# Altium footprint library vsm_lib.PcbLib: 68 footprints (part 3 of 5)
Each footprint in its own frame and in the unit in brackets; x right, y up, seen from the top. Pads: shape width x height; smd on the part's side, far side on the other; paste and mask are expansions set on the pad; w line width, h text height; cw(c..) or ccw(c..) is an arc to the next point about the centre after c.
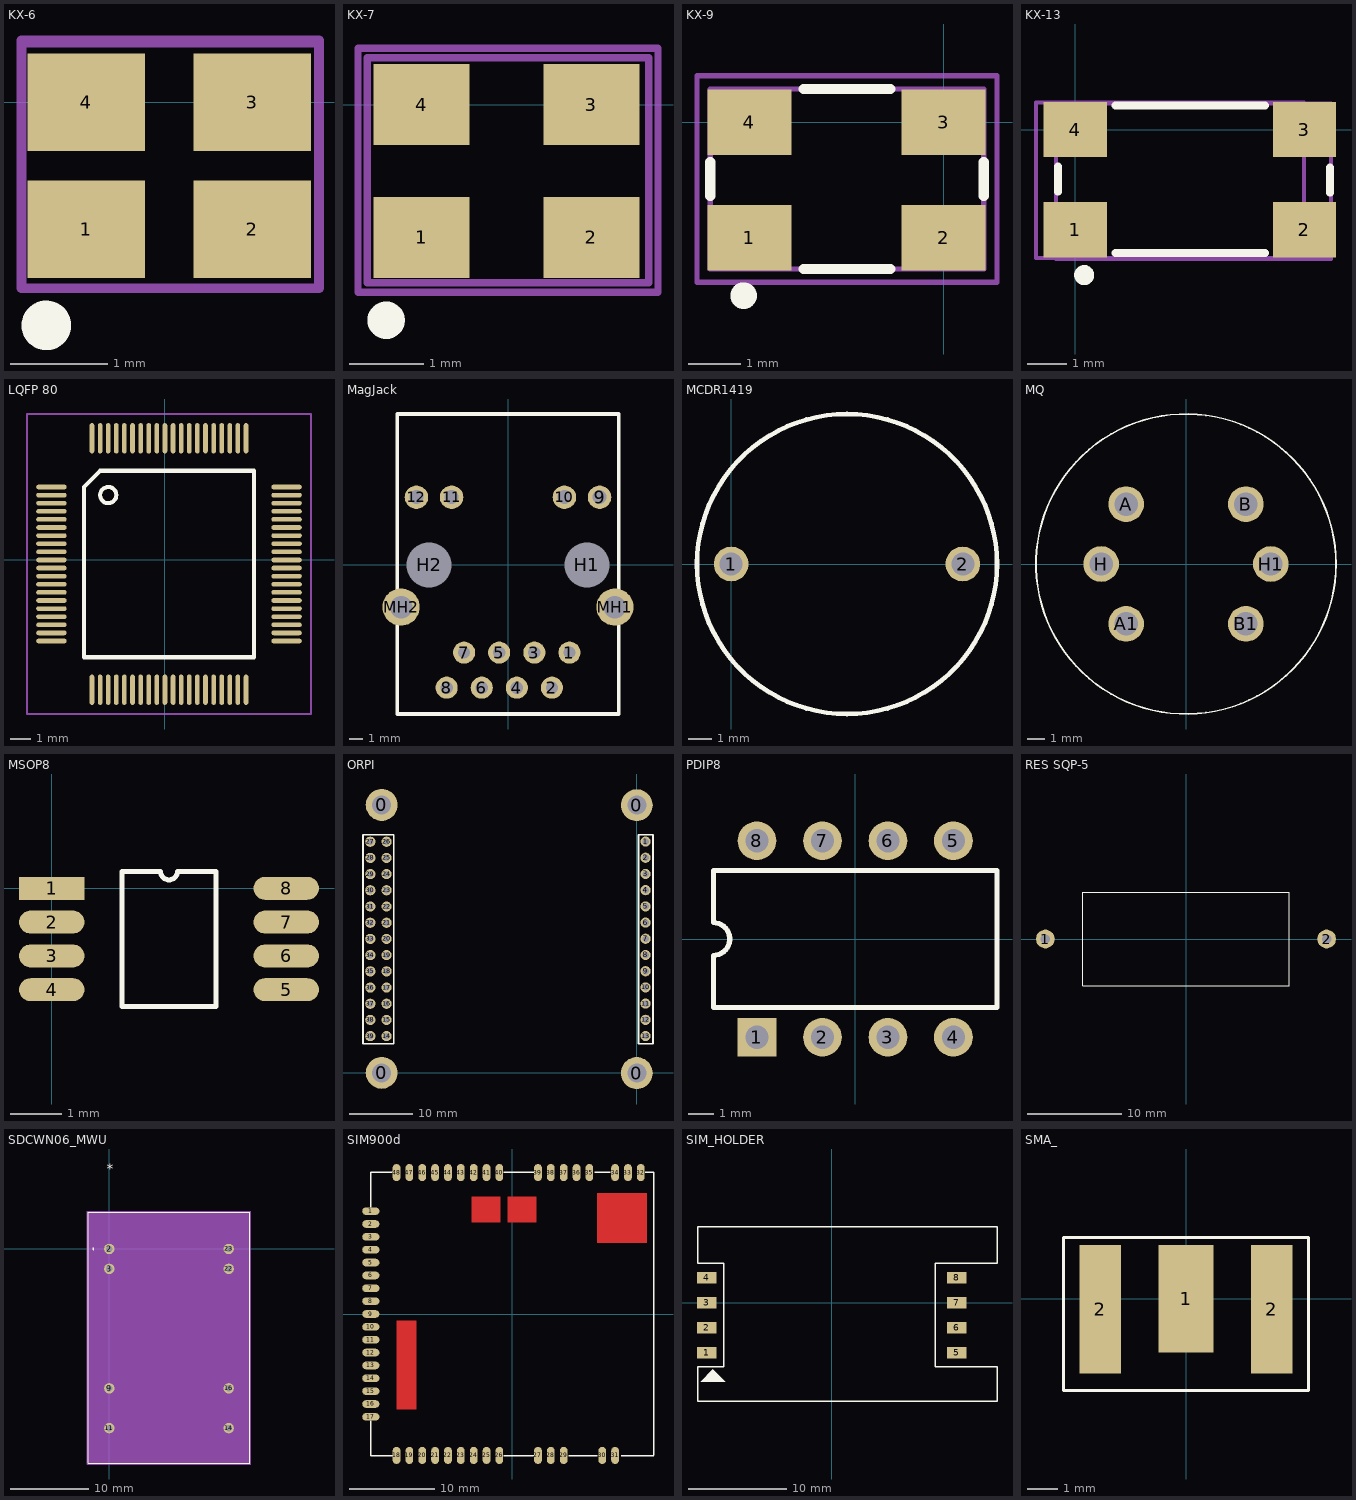
[diagram p2: the footprints below, top view; thin cyan lines are the x and y axes]

## KX-6 [mm]
height 1
pads (4):
  rect 1.2x1 smd: 1(-3.4,-1.3) 2(-1.7,-1.3) 3(-1.7,0) 4(-3.4,0)
Top Overlay:
  circle w0.254: c-3.81,-2.286 r0.127
Mechanical 13:
  lines w0.05: -4.089,-1.88 -1.016,-1.88 -1.016,0.584 -4.089,0.584 -4.089,-1.88
Mechanical 15:
  lines w0.1: -4.064,-1.905 -1.016,-1.905 -1.016,0.635 -4.064,0.635 -4.064,-1.905
3D body: height 0.55, standoff 0, extent -4.115,-1.905 -0.991,0.61

## KX-7 [mm]
height 0.55
pads (4):
  rect 1.3x1.1 smd: 1(-4.6,-1.8) 2(-2.3,-1.8) 3(-2.3,0) 4(-4.6,0)
Top Overlay:
  circle w0.254: c-5.08,-2.921 r0.127
Mechanical 13:
  lines w0.1: -5.334,-2.413 -5.334,0.635 -1.524,0.635 -1.524,-2.413 -5.334,-2.413
Mechanical 15:
  lines w0.1: -5.461,-2.54 -5.461,0.762 -1.397,0.762 -1.397,-2.54 -5.461,-2.54
3D body: height 0.55, standoff 0, extent -5.334,-2.413 -1.524,0.635

## KX-9 [mm]
height 1
pads (4):
  rect 1.6x1.25 smd: 1(-3.7,-2.2) 2(0,-2.2) 3(0,0) 4(-3.7,0)
Top Overlay:
  circle w0.254: c-3.81,-3.302 r0.127
  lines w0.2: -4.445,-1.397 -4.445,-0.762 ; -2.667,-2.794 -1.016,-2.794 ; -2.667,0.635 -1.016,0.635 ; 0.762,-1.397 0.762,-0.762
Mechanical 13:
  lines w0.1: -4.445,-2.794 0.762,-2.794 0.762,0.635 -4.445,0.635 -4.445,-2.794
Mechanical 15:
  lines w0.1: -4.699,-3.048 1.016,-3.048 1.016,0.889 -4.699,0.889 -4.699,-3.048
3D body: height 1, standoff 0, extent -4.445,-2.794 0.762,0.635

## KX-13 [mm]
pads (4):
  rect 1.6x1.4 smd: 1(0,-2.54) 2(5.8,-2.54) 3(5.8,0) 4(0,0)
Top Overlay:
  circle w0.254: c0.229,-3.683 r0.127
  lines w0.2: -0.432,-1.575 -0.432,-0.94 ; 1.016,-3.124 4.801,-3.124 ; 1.016,0.61 4.801,0.61 ; 6.452,-1.6 6.452,-0.965
Mechanical 13:
  lines w0.1: -0.483,-3.277 6.477,-3.277 6.477,0.66 -0.483,0.66 -0.483,-3.277
Mechanical 15:
  lines w0.1: -0.991,-3.251 5.791,-3.251 5.791,0.686 -0.991,0.686 -0.991,-3.251
3D body: height 1, standoff 0, extent -0.483,-3.226 6.528,0.686

## LQFP 80 [mm]
height 1
pads (80):
  oval 1.5x0.23 smd: 1(-5.6,3.6) 2(-5.6,3.2) 3(-5.6,2.8) 4(-5.6,2.4) 5(-5.6,2) 6(-5.6,1.6) 7(-5.6,1.2) 8(-5.6,0.8) 9(-5.6,0.4) 10(-5.6,0) 11(-5.6,-0.4) 12(-5.6,-0.8) 13(-5.6,-1.2) 14(-5.6,-1.6) 15(-5.6,-2) 16(-5.6,-2.4) 17(-5.6,-2.8) 18(-5.6,-3.2) 19(-5.6,-3.6) 20(-5.6,-4) 41(6,-4) 42(6,-3.6) 43(6,-3.2) 44(6,-2.8) 45(6,-2.4) 46(6,-2) 47(6,-1.6) 48(6,-1.2) 49(6,-0.8) 50(6,-0.4) 51(6,0) 52(6,0.4) 53(6,0.8) 54(6,1.2) 55(6,1.6) 56(6,2) 57(6,2.4) 58(6,2.8) 59(6,3.2) 60(6,3.6)
  oval 0.23x1.5 smd: 21(-3.6,-6.4) 22(-3.2,-6.4) 23(-2.8,-6.4) 24(-2.4,-6.4) 25(-2,-6.4) 26(-1.6,-6.4) 27(-1.2,-6.4) 28(-0.8,-6.4) 29(-0.4,-6.4) 30(0,-6.4) 31(0.4,-6.4) 32(0.8,-6.4) 33(1.2,-6.4) 34(1.6,-6.4) 35(2,-6.4) 36(2.4,-6.4) 37(2.8,-6.4) 38(3.2,-6.4) 39(3.6,-6.4) 40(4,-6.4) 61(4,6) 62(3.6,6) 63(3.2,6) 64(2.8,6) 65(2.4,6) 66(2,6) 67(1.6,6) 68(1.2,6) 69(0.8,6) 70(0.4,6) 71(0,6) 72(-0.4,6) 73(-0.8,6) 74(-1.2,6) 75(-1.6,6) 76(-2,6) 77(-2.4,6) 78(-2.8,6) 79(-3.2,6) 80(-3.6,6)
Top Overlay:
  circle w0.2: c-2.8,3.2 r0.4
  lines w0.2: -4,-4.8 4.4,-4.8 4.4,4.4 -3.2,4.4 -4,3.6 -4,-4.8
Mechanical 15:
  lines w0.1: -6.8,-7.6 7.2,-7.6 7.2,7.2 -6.8,7.2 -6.8,-7.6
3D body: height 1.45, standoff 0, extent -4,-4.8 4.4,4.4

## MagJack [mm]
height 13.5
pads (16):
  round 1.6 hole 0.89: 1(4.45,-6.35) 2(3.18,-8.89) 3(1.91,-6.35) 4(0.64,-8.89) 5(-0.64,-6.35) 6(-1.9,-8.89) 7(-3.18,-6.35) 8(-4.44,-8.89)
  round 1.7 hole 1.02: 9(6.625,4.9) 10(4.085,4.9) 11(-4.085,4.9) 12(-6.625,4.9)
  round 3 hole 3.25 unplated: H1(5.715,0) H2(-5.715,0)
  round 2.7 hole 1.63: MH1(7.745,-3.05) MH2(-7.745,-3.05)
Top Overlay:
  lines w0.254: 7.999,10.922 -8.001,10.922 -8.001,-10.795 8.001,-10.795 8.001,10.922
3D body: height 13.5, standoff 0, extent -8.001,-10.795 8.001,10.922

## MCDR1419 [mm]
pads (2):
  round 1.5 hole 1: 1(0,0) 2(10,0)
Top Overlay:
  circle w0.2: c5,0 r6.473

## MQ [mm]
height 23
pads (6):
  round 2 hole 1.3: A(-3.35,3.35) A1(-3.35,-3.35) B(3.35,3.35) B1(3.35,-3.35) H(-4.75,0) H1(4.75,0)
Top Overlay:
  circle w0.1: c0,0 r8.4

## MSOP8 [mm]
pads (8):
  rect 1.28x0.45 smd: 1(0,0)
  oval 1.28x0.45 smd: 2(0,-0.66) 3(0,-1.32) 4(0,-1.98) 5(4.58,-1.98) 6(4.58,-1.32) 7(4.58,-0.66) 8(4.58,0)
Top Overlay:
  lines w0.1: 1.375,-2.31 1.375,0.33 2.125,0.33 ccw(c2.29,0.33) 2.455,0.33 3.205,0.33 3.205,-2.31 1.375,-2.31
3D body: height 1.1, standoff 0, extent 1.321,-2.362 3.251,0.381

## ORPI [mm]
pads (43):
  round 5 hole 3: 0(-40,0) 0(-40,42) 0(0,-0.025) 0(0,41.975)
  round 1.6 hole 1: 1(1.37,36.26) 2(1.37,33.72) 3(1.37,31.18) 4(1.37,28.64) 5(1.37,26.1) 6(1.37,23.56) 7(1.37,21.02) 8(1.37,18.48) 9(1.37,15.94) 10(1.37,13.4) 11(1.37,10.86) 12(1.37,8.32) 13(1.37,5.78) 14(-39.23,5.76) 15(-39.23,8.3) 16(-39.23,10.84) 17(-39.23,13.38) 18(-39.23,15.92) 19(-39.23,18.46) 20(-39.23,21) 21(-39.23,23.54) 22(-39.23,26.08) 23(-39.23,28.62) 24(-39.23,31.16) 25(-39.23,33.7) 26(-39.23,36.24) 27(-41.77,36.24) 28(-41.77,33.7) 29(-41.77,31.16) 30(-41.77,28.62) 31(-41.77,26.08) 32(-41.77,23.54) 33(-41.77,21) 34(-41.77,18.46) 35(-41.77,15.92) 36(-41.77,13.38) 37(-41.77,10.84) 38(-41.77,8.3) 39(-41.77,5.76)
Top Overlay:
  lines w0.254: -42.926,4.572 -42.926,37.338 -38.1,37.338 -38.1,4.572 -42.926,4.572 ; 0.254,4.572 2.54,4.572 2.54,37.338 0.254,37.338 0.254,4.572
3D body "Orange Pi Zero v1_1 - ap214.STEP": height 18, standoff -0.15, extent -43.041,-3.705 3.003,48.122

## PDIP8 [mm] "DIP; 8 Leads; Row Spacing 7.62 mm; Pitch 2.54 mm"
height 5.33
pads (8):
  rect 1.5x1.5 hole 0.9: 1(-3.81,-3.81)
  round 1.5 hole 0.9: 2(-1.27,-3.81) 3(1.27,-3.81) 4(3.81,-3.81) 5(3.81,3.81) 6(1.27,3.81) 7(-1.27,3.81) 8(-3.81,3.81)
Top Overlay:
  lines w0.2: -5.5,-2.65 -5.5,-0.635 ccw(c-5.5,0) -5.5,0.635 -5.5,2.65 5.5,2.65 5.5,-2.65 -5.5,-2.65

## RES SQP-5 [mm]
pads (2):
  round 2 hole 1: 1(-15,0) 2(15,0)
Top Overlay:
  lines w0.1: -11,-5 11,-5 11,5 -11,5 -11,-5
3D body: height 8, standoff 0, extent -11.049,-4.953 11.049,5.08

## SDCWN06_MWU [mil]
pads (8):
  round 52 / inner round 60 / far side round 52 hole 32 paste-99999 mask+0: 2(0,0) 3(0,-100) 9(0,-700) 11(0,-900) 14(600,-900) 16(600,-700) 22(600,-100) 23(600,0)
Top Overlay:
  circle w6: c-80,0 r3
  lines w6: -105,-1075 -105,185 705,185 705,-1075 -105,-1075
  text "*" at -12.5,376.67 h50
Mechanical 13:
  circle w0: c26,0 r3
  lines w0: 288,180 ccw(c300,180) 312,180
  lines w1: -100,-1070 -100,180 700,180 700,-1070 -100,-1070
  text "*" at -12.5,16.67 h50
Mechanical 15:
  region: 700,-1070 -100,-1070 -100,180 700,180
  region: 710,-1080 -110,-1080 -110,190 710,190
  lines w6: -110,-1080 710,-1080 710,190 -110,190 -110,-1080
3D body "SDCWN06_MWU.step": height 400.12, standoff -300, extent -100,-1070 700,180

## SIM900d [mm]
height 3
pads (48):
  oval 2x0.9 smd: 1(-16.5,12) 2(-16.5,10.5) 3(-16.5,9) 4(-16.5,7.5) 5(-16.5,6) 6(-16.5,4.5) 7(-16.5,3) 8(-16.5,1.5) 9(-16.5,0) 10(-16.5,-1.5) 11(-16.5,-3) 12(-16.5,-4.5) 13(-16.5,-6) 14(-16.5,-7.5) 15(-16.5,-9) 16(-16.5,-10.5) 17(-16.5,-12)
  oval 0.9x2 smd: 18(-13.5,-16.5) 19(-12,-16.5) 20(-10.5,-16.5) 21(-9,-16.5) 22(-7.5,-16.5) 23(-6,-16.5) 24(-4.5,-16.5) 25(-3,-16.5) 26(-1.5,-16.5) 27(3,-16.5) 28(4.5,-16.5) 29(6,-16.5) 30(10.5,-16.5) 31(12,-16.5) 32(15,16.5) 33(13.5,16.5) 34(12,16.5) 35(9,16.5) 36(7.5,16.5) 37(6,16.5) 38(4.5,16.5) 39(3,16.5) 40(-1.5,16.5) 41(-3,16.5) 42(-4.5,16.5) 43(-6,16.5) 44(-7.5,16.5) 45(-9,16.5) 46(-10.5,16.5) 47(-12,16.5) 48(-13.5,16.5)
Top Layer:
  pour cut-out: 15.7,14.1 9.9,14.1 9.9,8.3 15.7,8.3
  pour cut-out: -13.5,-11.1 -11.2,-11.1 -11.2,-0.8 -13.5,-0.8
  pour cut-out: -0.5,13.7 2.8,13.7 2.8,10.7 -0.5,10.7
  pour cut-out: -4.7,13.7 -4.7,10.7 -1.4,10.7 -1.4,13.7
Top Overlay:
  lines w0.154: -16.51,-12.446 -16.51,-16.51 -13.97,-16.51 ; -16.51,12.446 -16.51,16.51 -13.97,16.51 ; -1.016,-16.51 2.54,-16.51 ; -1.016,16.51 2.54,16.51 ; 6.604,-16.51 9.906,-16.51 ; 9.652,16.51 11.43,16.51 ; 12.7,-16.51 16.51,-16.51 ; 15.494,16.51 16.5,16.51 16.5,-16.5
3D body: height 3, standoff 0, extent -16.5,-16.5 16.5,16.5

## SIM_HOLDER [mm]
pads (8):
  rect 2x1.2 smd: 1(-12.7,-5.08) 2(-12.7,-2.54) 3(-12.7,0) 4(-12.7,2.54) 5(12.7,-5.08) 6(12.7,-2.54) 7(12.7,0) 8(12.7,2.54)
Top Overlay:
  region: -12.075,-6.775 -13.325,-8.025 -10.825,-8.025
  lines w0.15: -13.6,-10 16.8,-10 16.8,-6.5 10.5,-6.5 10.5,4 16.8,4 16.8,7.7 -13.6,7.7 -13.6,4 -11,4 -11,-6.5 -13.6,-6.5 -13.6,-10
3D body: height 2, standoff 0, extent -13.6,-10 16.8,7.7

## SMA_ [mm]
pads (3):
  rect 1.8x3.5 smd: 1(0,0)
  rect 1.35x4.2 smd: 2(-2.8,-0.35) 2(2.8,-0.35)
Top Overlay:
  lines w0.1: -4,-3 4,-3 4,2 -4,2 -4,-3